# EAGLE library part X__SMDTOP-12 (library ..SMD)
AMP connector
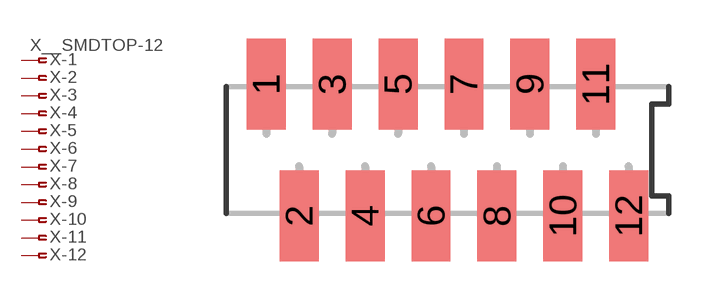
[diagram p358: symbol with the pads of SMDTOP12; footprint SMDTOP12]

Designator prefix X; gates -1=PIN-NV -2=PIN-N -3=PIN-N -4=PIN-N -5=PIN-N -6=PIN-N -7=PIN-N -8=PIN-N -9=PIN-N -10=PIN-N -11=PIN-N -12=PIN-N

## X__SMDTOP-12  [SMDTOP12]
1  -1:1  pas
2  -2:1  pas
3  -3:1  pas
4  -4:1  pas
5  -5:1  pas
6  -6:1  pas
7  -7:1  pas
8  -8:1  pas
9  -9:1  pas
10  -10:1  pas
11  -11:1  pas
12  -12:1  pas

## Footprint SMDTOP12 (pad centres in mm)
AMP connector
smd 1.5 x 3.5: 1 -6.985,2.54; 2 -5.715,-2.54; 3 -4.445,2.54; 4 -3.175,-2.54; 5 -1.905,2.54; 6 -0.635,-2.54; 7 0.635,2.54; 8 1.905,-2.54; 9 3.175,2.54; 10 4.445,-2.54; 11 5.715,2.54; 12 6.985,-2.54